# EAGLE library part THS5641 (library kamiki)
8-Bit, 100MSPS, CommsDAC, Digital-to-Analog Converter
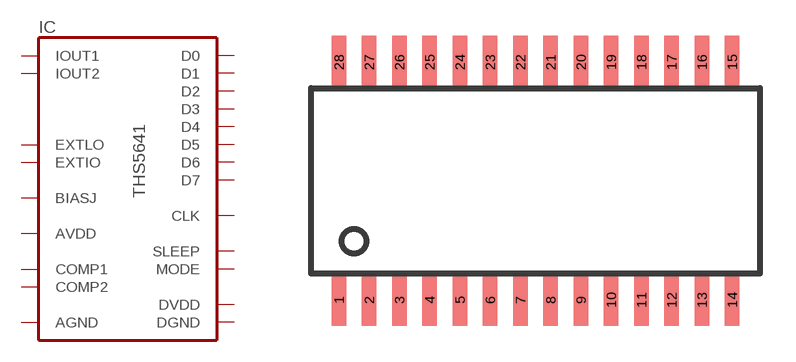
[diagram p30: symbol with the pads of SOP28; footprint SOP28]

Designator prefix IC

## THS5641  [SOP28]
1  D7  in
2  D6  in
3  D5  in
4  D4  in
5  D3  in
6  D2  in
7  D1  in
8  D0  in
15  SLEEP  in
16  EXTLO  pas
17  EXTIO  pas
18  BIASJ  pas
19  COMP1  pas
20  AGND  pwr
21  IOUT2  out
22  IOUT1  out
23  COMP2  pas
24  AVDD  pwr
25  MODE  in
26  DGND  pwr
27  DVDD  pwr
28  CLK  in

## Footprint SOP28 (pad centres in mm)
SMALL OUTLINE PACKAGE
smd 0.6 x 2.2: 1 -8.255,-4.992; 2 -6.985,-4.992; 3 -5.715,-4.992; 4 -4.445,-4.992; 5 -3.175,-4.992; 6 -1.905,-4.992; 7 -0.635,-4.992; 8 0.635,-4.992; 9 1.905,-4.992; 10 3.175,-4.992; 11 4.445,-4.992; 12 5.715,-4.992; 13 6.985,-4.992; 14 8.255,-4.992; 15 8.255,4.992; 16 6.985,4.992; 17 5.715,4.992; 18 4.445,4.992; 19 3.175,4.992; 20 1.905,4.992; 21 0.635,4.992; 22 -0.635,4.992; 23 -1.905,4.992; 24 -3.175,4.992; 25 -4.445,4.992; 26 -5.715,4.992; 27 -6.985,4.992; 28 -8.255,4.992